# EAGLE library part MIC5353-3.3YMT (library EPS_PQ60)
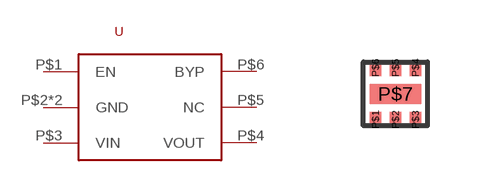
[diagram p10: symbol with the pads of MIC5353; footprint MIC5353]

Designator prefix -

## MIC5353-3.3YMT  [MIC5353]
P$1  EN
P$2  GND
P$3  VIN
P$4  VOUT
P$5  NC
P$6  BYP
P$7  GND

## Footprint MIC5353 (pad centres in mm)
smd 0.3 x 0.4: P$1 -0.5,-0.65; P$2 0,-0.65; P$3 0.5,-0.65; P$4 0.5,0.65; P$5 0,0.65; P$6 -0.5,0.65
smd 1.3 x 0.5: P$7 0,0